# Altium schematic symbol library elements.SchLib: 2 symbols
Pins are listed as number, name and electrical type; pins without a type are passive.

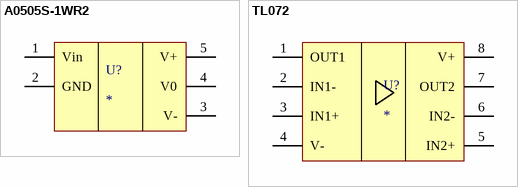
[diagram p0: symbols A0505S-1WR2 to TL072]

## A0505S-1WR2
designator U?
footprint A0505S-1WR2
pins: 1 Vin, 2 GND, 3 V-, 4 V0, 5 V+

## TL072
designator U?
footprint TL072
pins: 1 OUT1, 2 IN1-, 3 IN1+, 4 V-, 5 IN2+, 6 IN2-, 7 OUT2, 8 V+